# Altium footprint library LAB3.PcbLib: 7 footprints
Each footprint in its own frame and in the unit in brackets; x right, y up, seen from the top. Pads: shape width x height; smd on the part's side, far side on the other; paste and mask are expansions set on the pad; w line width, h text height; cw(c..) or ccw(c..) is an arc to the next point about the centre after c.
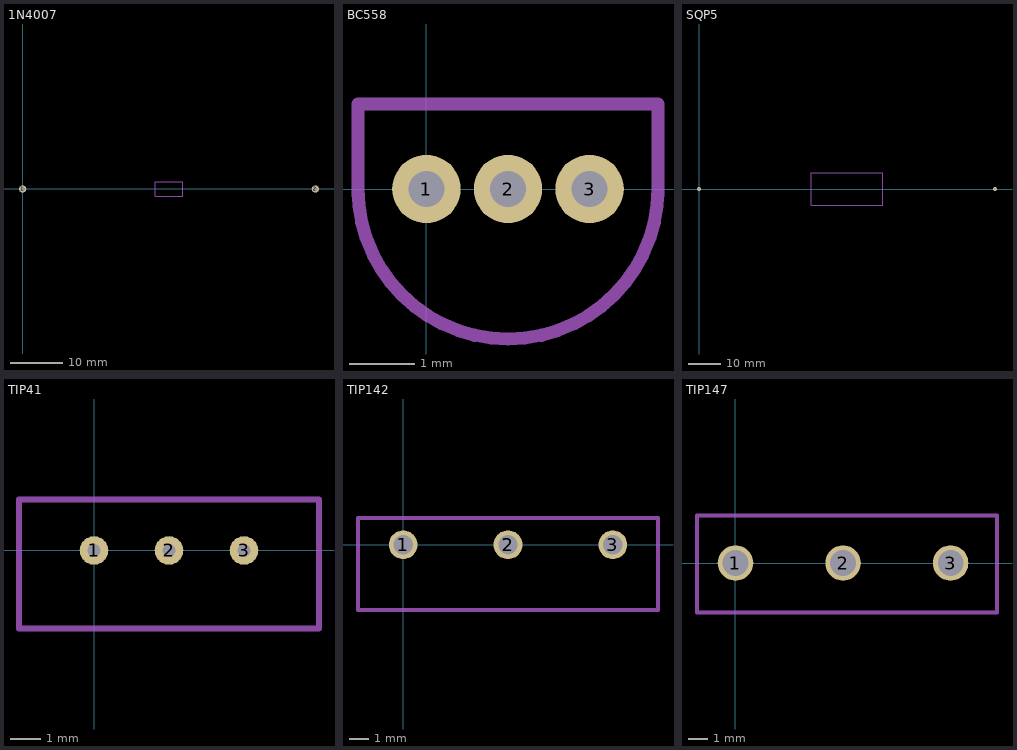
[diagram p0: the footprints below, top view; thin cyan lines are the x and y axes]

## 1N4007 [mm]
pads (2):
  round 1.4 hole 0.9: 1(0,0) 2(56,0)
Mechanical 1:
  lines w0.2: 25.4,-1.35 30.6,-1.35 30.6,1.35 25.4,1.35 25.4,-1.35

## BC558 [mm]
pads (3):
  round 1.05 hole 0.55: 1(0,0) 2(1.25,0) 3(2.5,0)
Mechanical 1:
  lines w0.2: -1.05,-0.1 -1.05,1.3 3.55,1.3 3.55,-0.1 ; -1.05,0 ccw(c1.25,0) 3.55,0

## PCBComponent_1 [mm]

## SQP5 [mm]
pads (2):
  round 1.25 hole 0.75: 1(0,0) 2(92.5,0)
Mechanical 1:
  lines w0.2: 35,-5 57.5,-5 57.5,5 35,5 35,-5

## TIP41 [mm]
pads (3):
  round 0.95 hole 0.45: 1(0,0) 2(2.5,0) 3(5,0)
Mechanical 1:
  lines w0.2: -2.5,-2.6 7.5,-2.6 7.5,1.7 -2.5,1.7 -2.5,-2.6

## TIP142 [mm]
pads (3):
  round 1.5 hole 1: 1(0,0) 2(5.45,0) 3(10.9,0)
Mechanical 1:
  lines w0.2: -2.35,-3.4 13.25,-3.4 13.25,1.4 -2.35,1.4 -2.35,-3.4

## TIP147 [mm]
pads (3):
  round 1.8 hole 1.3: 1(0,0) 2(5.45,0) 3(10.9,0)
Mechanical 1:
  lines w0.2: -1.95,-2.5 13.25,-2.5 13.25,2.4 -1.95,2.4 -1.95,-2.5